# Altium schematic symbol library DMP1045U-7.SchLib: 1 symbol
Pins are listed as number, name and electrical type; pins without a type are passive.

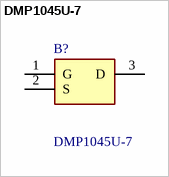
[diagram p0: symbol DMP1045U-7]

## DMP1045U-7
designator B?
P-Channel Enhancement MOSFET SOT-23 Diodes Inc DMP1045U-7 P-channel MOSFET Transistor, 5.2 A, -12 V, 3-Pin SOT23; Manufacturer_Name: Diodes Incorporated; Geometry.Height: 1.1mm; Mouser Part Number: 621-DMP1045U-7; Mouser Price/Stock: https://www.mouser.co.uk/ProductDetail/Diodes-Incorporated/DMP1045U-7?qs=T%2FOtf55vL7eEKnIWhgMvTQ%3D%3D; Manufacturer_Part_Number: DMP1045U-7; Datasheet Link: https://www.diodes.com//assets/Datasheets/DMP1045U.pdf
footprint SOT96P240X110-3N
pins: 1 G, 2 S, 3 D